# EAGLE library part 1-776267-1 (library 1-776267-1)
AMPSEAL 14 Position 4 mm Pitch Triple Row Wire to Board Right Angle Header
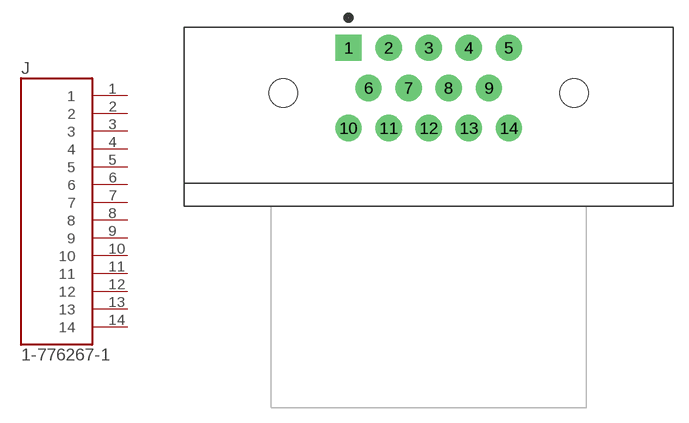
[diagram p0: symbol with the pads of TE_1-776267-1; footprint TE_1-776267-1]

Designator prefix J

## 1-776267-1 (Comment: 1-776267-1; Description: AMPSEAL 14 Position 4 mm Pitch Triple Row Wire to Board Right Angle Header; Digi-Key_Part_Number: A142413-ND; Digi-Key_Purchase_URL: https://www.digikey.com/product-detail/en/te-connectivity-amp-connectors/1-776267-1/A142413-ND/5428565?utm_source=snapeda&utm_medium=aggregator&utm_campaign=symbol; EU_RoHS_Compliance: Compliant; MF: TE Connectivity; MP: 1-776267-1; Package: None; TE_purchase_URL: https://www.te.com/usa-en/product-1-776267-1.html?te_bu=Cor&te_type=disp&te_campaign=seda_glo_cor-seda-global-disp-prtnr-fy19-seda-model-bom-cta_sma-317_1&elqCampaignId=32493)  [TE_1-776267-1]
1  1  pas
2  2  pas
3  3  pas
4  4  pas
5  5  pas
6  6  pas
7  7  pas
8  8  pas
9  9  pas
10  10  pas
11  11  pas
12  12  pas
13  13  pas
14  14  pas

## Footprint TE_1-776267-1 (pad centres in mm)
drill 1.75 square: 1 -8,4.5
drill 1.75: 2 -4,4.5; 3 0,4.5; 4 4,4.5; 5 8,4.5; 6 -6,0.5; 7 -2,0.5; 8 2,0.5; 9 6,0.5; 10 -8,-3.5; 11 -4,-3.5; 12 0,-3.5; 13 4,-3.5; 14 8,-3.5
hole 2.85 at -14.5,0
hole 2.85 at 14.5,0